# Altium schematic symbol library xDAC_Carrier.SCHLIB: 81 symbols
Pins are listed as number, name and electrical type; pins without a type are passive.

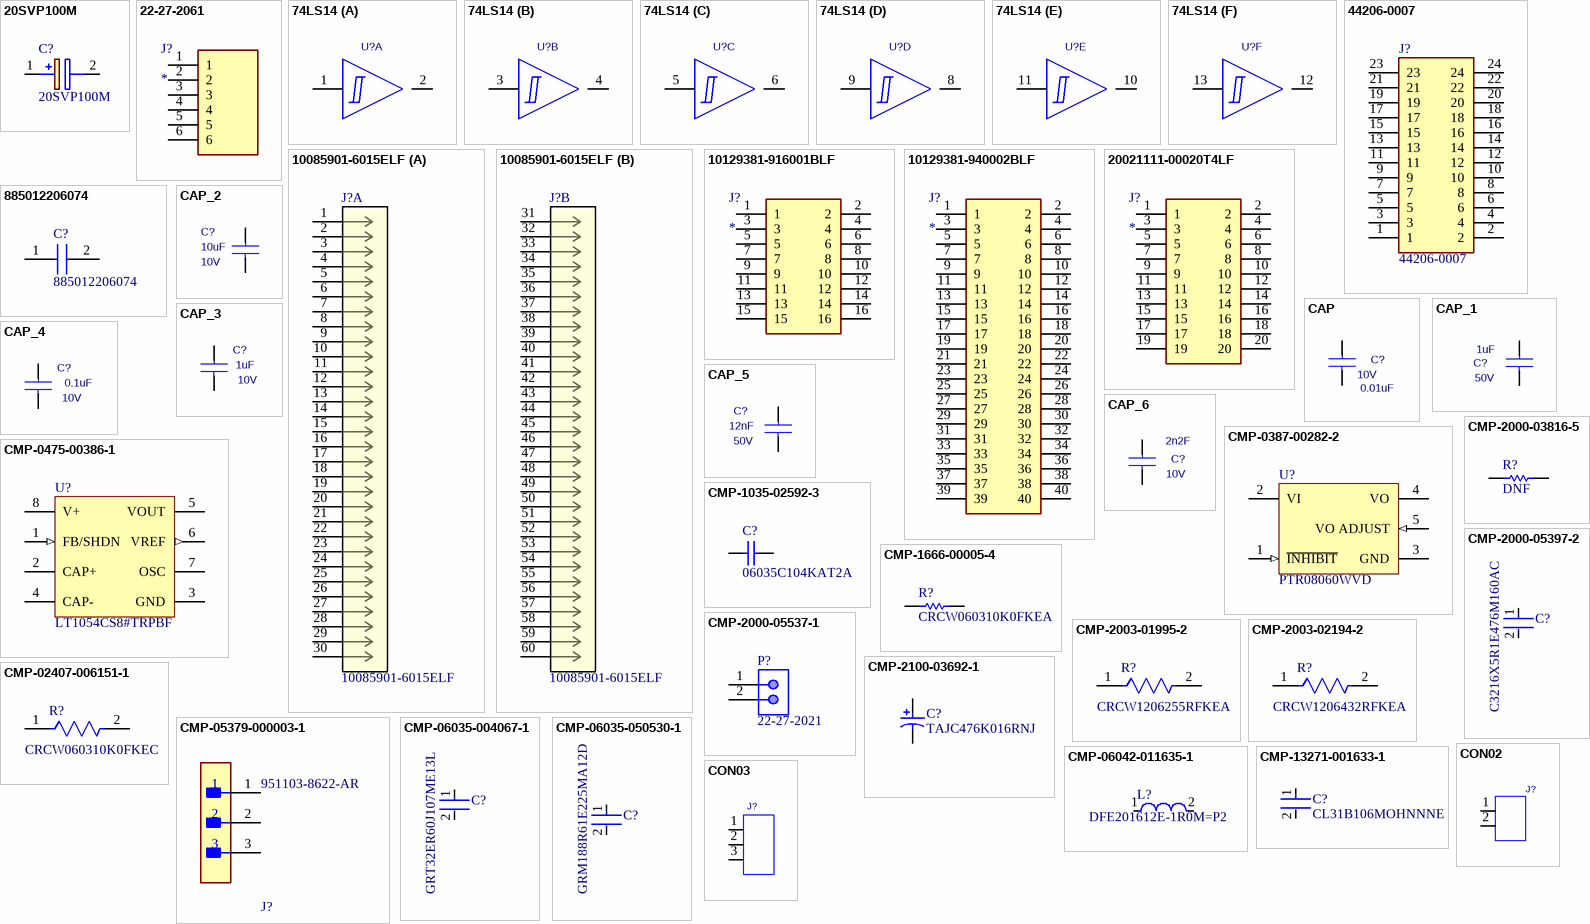
[diagram p0: symbols 20SVP100M to CON03]

## 20SVP100M
designator C?
Capacitor Polarised; Manufacturer_Name: Panasonic; Datasheet Link: https://industrial.panasonic.com/cdbs/www-data/pdf/AAB8000/AAB8000C193.pdf; Height: 12mm; VCC-A_PSU: *; Manufacturer_Part_Number: 20SVP100M
footprint CAPAE830X1200N
pins: 1 +, 2 -

## 22-27-2061
designator J?
Connector; Manufacturer_Name: Molex; Datasheet Link: https://componentsearchengine.com//22-27-2061.pdf; Height: 11.7mm; Mouser2 Part Number: 538-22-27-2061; Mouser2 Price/Stock: https://www.mouser.com/Search/Refine.aspx?Keyword=538-22-27-2061; Manufacturer_Part_Number: 22-27-2061
footprint HDRV6W64P0X254_1X6_1524X580X1170P
pins: 1, 2, 3, 4, 5, 6

## 74LS14
designator U?  (value not drawn)
HEX SCHMITT-TRIGGER INV; Manufacturer: ON SEMICONDUCTOR; Manufacturer_PN: 74AC04SC; Manufacturer #1: TEXAS INSTRUMENTS; PCB DECAL: SO14NB; CLASS: IC; Source_Path: \\MIL-NS1\CIP\SCHEMATIC_SYMBOLS\LTC_IC.OLB; Value: 74AC04SC; Order No: 1014140; SIGPIN14: VCC; Package_Size: SOT23-5; Package_Type: SOT23-5; Part No: 74AC04SC
footprint SO14NB
pins on every part: 7 GND (power) hidden to GND, 14 +5V (power) hidden to +5V
part A pins: 1, 2
part B pins: 3, 4
part C pins: 5, 6
part D pins: 8, 9
part E pins: 10, 11
part F pins: 12, 13

## 44206-0007
designator J?
Connector; Manufacturer_Name: Molex; Datasheet Link: https://www.molex.com/pdm_docs/sd/442060007_sd.pdf; Height: 12.8mm; Manufacturer_Part_Number: 44206-0007; POWER_INLET: *; System: Connector
footprint 442060007
pins: 1, 2, 3, 4, 5, 6, 7, 8, 9, 10, 11, 12, 13, 14, 15, 16, 17, 18, 19, 20, 21, 22, 23, 24

## 10085901-6015ELF
designator J?
No Description Available; Vendor: Amphenol; Built_By: EMA_Cory; SourceLibrary: Add_to_database_2021-04-09; System: Connector; Datasheet: https://cdn.amphenol-icc.com/media/wysiwyg/files/drawing/10085901.pdf?__cf_chl_jschl_tk__=00cf1f2338c5aeb40a4a47e00234174ceeaf26be-1617915708-0-AUipvdsWCe-XZcdQlp4wT1nonxNIPUZLiwIArEoPaP6cuSg2Amwfh3IakaG5lV7f92VjraYq1c-sb0kWBpxlvqJ5btwK7xgzNsdYdPmM7_nb70OsPjyWttq9HPXjGplazXSr1hDHv_rDyC0zqv3HN48lPyOnNuBENjkL6MLTjp3uNt_7zdD9wXF42vBbOCWCMT21rEgRTcG02oyZPRtIZwSo4Bm14CHkq-wdTg3hTL-ge00hJNPLNIP2JOl_bFxROehCM3O6jFy1LURflg9URMEHmwnyPbKOGS5_efv-ux4kMXut2MrrVkPCOaNyQI6A4DXSEQB6NjyE-YiRBZyhp3AdQLNym8hlKD61FdGHWwHwPR-a6VgqUZ92M4HgAmiZit1aB5L5iBGO44LNzjKKX60f2YBLURA21HBfVl5evVMz2Eb-ABe8B7xej-rMAyqLj9p7F-6ASMxfQEpk_K_En3gheYDfZcXem0ttM-lU-86L; Manufacturer_Part_Number: 10085901-6015ELF; Copyright: Copyright (C) 2018 Accelerated Designs. All rights reserved; RefDes: RefDes; Type: DEV
footprint CONN_10085901-6015ELF_AMP
part A pins: 1, 2, 3, 4, 5, 6, 7, 8, 9, 10, 11, 12, 13, 14, 15, 16, 17, 18, 19, 20, 21, 22, 23, 24, 25, 26, 27, 28, 29, 30
part B pins: 31, 32, 33, 34, 35, 36, 37, 38, 39, 40, 41, 42, 43, 44, 45, 46, 47, 48, 49, 50, 51, 52, 53, 54, 55, 56, 57, 58, 59, 60

## 10129381-916001BLF
designator J?
Connector; Manufacturer_Name: Amphenol; Manufacturer_Part_Number: 10129381-916001BLF; Datasheet Link: https://componentsearchengine.com//10129381-916001BLF.pdf; Height: 8.63mm; Mouser2 Part Number: 649-1012938191601BLF; Mouser2 Price/Stock: https://www.mouser.com/Search/Refine.aspx?Keyword=649-1012938191601BLF
footprint HDRV16W90P254_2X8_2032X483X863P
pins: 1, 2, 3, 4, 5, 6, 7, 8, 9, 10, 11, 12, 13, 14, 15, 16

## 10129381-940002BLF
designator J?
Connector; Manufacturer_Name: Amphenol; Manufacturer_Part_Number: 10129381-940002BLF; Datasheet Link: https://cdn.amphenol-icc.com/media/wysiwyg/files/documentation/datasheet/boardwiretoboard/bwb_econostik_254headers.pdf; Height: 8.78mm
footprint HDRV40W64P254_2X20_5080X483X878P
pins: 1, 2, 3, 4, 5, 6, 7, 8, 9, 10, 11, 12, 13, 14, 15, 16, 17, 18, 19, 20, 21, 22, 23, 24, 25, 26, 27, 28, 29, 30, 31, 32, 33, 34, 35, 36, 37, 38, 39, 40

## 20021111-00020T4LF
designator J?
Connector; Manufacturer_Name: FCI Electronics; Manufacturer_Part_Number: 20021111-00020T4LF; Datasheet Link: https://media.digikey.com/pdf/Data%20Sheets/FCI%20PDFs/Minitek%20127_Catalog.pdf; Height: 5.5mm
footprint HDRV20W40P127_2X10_1270X340X550P
pins: 1, 2, 3, 4, 5, 6, 7, 8, 9, 10, 11, 12, 13, 14, 15, 16, 17, 18, 19, 20

## 885012206074
designator C?
Capacitor; Manufacturer_Name: Wurth Elektronik; Datasheet Link: https://katalog.we-online.com/pbs/datasheet/885012206074.pdf; Height: 0.87mm; Manufacturer_Part_Number: 885012206074; 8Vinv: *
footprint CAPC1608X87N
pins: 1, 2

## CAP
designator C?  value 0.01uF  Rated_Voltage: 10V  (hidden comment: CAP)
CAP.,0.01uF,X5R,10V,10%,0603; Manufacturer_PN: 0603ZD103KAT2A; Manufacturer: AVX; CLASS: DISCRETE; FPLIST: CC0603N,CC0603L,CC0603M; PCB DECAL: CC0603N; Source_Path: \\MIL-NS1\CIP\SCHEMATIC_SYMBOLS\LTC_CAPACITOR.OLB; Geometry.Height: 37.40mil; Tolerance: 10%; Dielectric_Type: X5R; Package_Size: 0603
footprint CC0603N
pins: 1, 2

## CAP_1
designator C?, comment value 1uF  Rated_Voltage: 50V  (hidden comment: CAP)
CAP.,1uF,X5R,50V,10%,0603; PART_NUMBER: 150-3292; Manufacturer: TDK; Manufacturer_PN: C1608X5R1H105K080AB; FPLIST: CC0603N,CC0603L,CC0603M; CLASS: DISCRETE; PCB DECAL: CC0603N; Source_Path: \\MIL-NS1\CIP\SCHEMATIC_SYMBOLS\LTC_CAPACITOR.OLB; Geometry.Height: 37.40mil; Package_Size: 0603; Dielectric_Type: X5R; Tolerance: 10%; Package_Type: SMD
footprint CC0603N
pins: 1, 2

## CAP_2
designator C?, comment value 10uF  Rated_Voltage: 10V  (hidden comment: CAP)
CAP.,10uF,X5R,10V,20%,0603; PART_NUMBER: 150-3459; Manufacturer: AVX; Manufacturer_PN: 0603ZD106MAT2A; FPLIST: CC0603N,CC0603L,CC0603M; CLASS: DISCRETE; PCB DECAL: CC0603N; Source_Path: \\MIL-NS1\CIP\SCHEMATIC_SYMBOLS\LTC_CAPACITOR.OLB; Geometry.Height: 37.40mil; Package_Size: 0603; Package_Type: SMD; Dielectric_Type: X5R; Tolerance: 20%
footprint CC0603N
pins: 1, 2

## CAP_3
designator C?, comment value 1uF  Rated_Voltage: 10V  (hidden comment: CAP)
CAP.,1uF,X5R,10V,10%,0603; Manufacturer_PN: 0603ZD105KAT2A; Manufacturer: AVX; PART_NUMBER: 150-0113; CLASS: DISCRETE; FPLIST: CC0603N,CC0603L,CC0603M; PCB DECAL: CC0603N; Source_Path: \\MIL-NS1\CIP\SCHEMATIC_SYMBOLS\LTC_CAPACITOR.OLB; Geometry.Height: 37.40mil; Tolerance: 10%; Dielectric_Type: X5R; Package_Size: 0603
footprint CC0603N
pins: 1, 2

## CAP_4
designator C?, comment value 0.1uF  Rated_Voltage: 10V  (hidden comment: CAP)
CAP.,0.1uF,X5R,10V,10%,0603; PART_NUMBER: 150-3154; Manufacturer: AVX; Manufacturer_PN: 0603ZD104KAT2A; FPLIST: CC0603N,CC0603L,CC0603M; CLASS: DISCRETE; PCB DECAL: CC0603N; Source_Path: \\MIL-NS1\CIP\SCHEMATIC_SYMBOLS\LTC_CAPACITOR.OLB; Geometry.Height: 37.40mil; Package_Size: 0603; Dielectric_Type: X5R; Tolerance: 10%
footprint CC0603N
pins: 1, 2

## CAP_5
designator C?, comment value 12nF  Rated_Voltage: 50V  (hidden comment: CAP)
Cap., 0.012µF ±10% 50V Ceramic X7R 0603 (1608 Metric); PART_NUMBER: 478-1228-1-ND; Manufacturer: AVX; Manufacturer_PN: 06035C123KAT2A; FPLIST: CC0603N,CC0603L,CC0603M; Dielectric_Type: X5R; CLASS: DISCRETE; PCB DECAL: CC0603N; Source_Path: \\MIL-NS1\CIP\SCHEMATIC_SYMBOLS\LTC_CAPACITOR.OLB; Geometry.Height: 37.40mil; Package_Size: 0603; Package_Type: SMD; Tolerance: 10%
footprint CC0603N
pins: 1, 2

## CAP_6
designator C?, comment value 2n2F  Rated_Voltage: 10V  (hidden comment: CAP)
CAP.,2n2F,X5R,10V,10%,0603; PART_NUMBER: 1414624; Manufacturer: Kemet; Manufacturer_PN: C0603C222K5RACTU; FPLIST: CC0603N,CC0603L,CC0603M; CLASS: DISCRETE; PCB DECAL: CC0603N; Source_Path: \\MIL-NS1\CIP\SCHEMATIC_SYMBOLS\LTC_CAPACITOR.OLB; Geometry.Height: 37.40mil; Package_Size: 0603; Dielectric_Type: X5R; Tolerance: 10%
footprint CC0603N
pins: 1, 2

## CMP-0387-00282-2
designator U?, comment PTR08060WVD
6 A, 4.5 to 14 V Input, Non-Isolated, Wide Output, Adjustable Power Module, -40 to 85 degC, 5-pin Module (EDP5), Pb-Free (RoHS); Manufacturer: Texas Instruments; Iout(Max)(A): 6; Vout(Min)(V): 0.6; SubFamily: Step-Down (Buck) Module; Regulated Outputs(#): 1; Vout(Max)(V): 5.5; VO Adjustable: TRUE; Vin(Max)(V): 14; Vin(Min)(V): 4.5; ComponentLink3URL: http://www.ti.com/lit/ml/mpds304/mpds304.pdf; ComponentLink1URL: http://www.ti.com/; Mounting Technology: Through Hole; Eco-Plan: Pb-Free (RoHS); PackageReference: EDP0005A; DatasheetVersion: SLTS289F; ComponentLink4URL: Samples URL:http://www.ti.com/product/ptr08060w; ComponentLink3Description: Package Specification; ComponentLink4Description: URL Link1; PartNumber: PTR08060WVD; PackageVersion: 4208201/A; ComponentLink2Description: Datasheet; ComponentLink1Description: Manufacturer URL; PackageDescription: 5-Pin Plastic Special Shape, Body 16.51 x 10.41 mm; ComponentLink2URL: http://www.ti.com/general/docs/lit/getliterature.tsp?genericPartNumber=PTR08060W&fileType=pdf; VCC-A_PSU: *; Manufacturer Part Number: PTR08060WVD
footprint EDP0005A (Module, 5-Leads, Body 10.41x9.42mm)
pins: 1 ~{INHIBIT} (in) "The Inhibit pin is an open-collector/drain-negative logic input that is referenced to GND. Applying a low-level ground signal to this input disables the module's output. When the Inhibit control is active, the input current (See Datasheet)", 2 VI (power) "The positive input voltage power node to the module, which is referenced to common GND.", 3 GND (power) "This is the common ground connection for the VI and VO power connections. It is also the 0 VDC reference for the Inhibit and VO Adjust control inputs.", 4 VO (power) "The regulated positive power output with respect to the GND node.", 5 VO ADJUST (in) "A 1% resistor must be connected between this pin and GND (pin 3) to set the output voltage of the module higher than 0.6 V. If left open-circuit, the output voltage defaults to this value. The temperature stability of the (See Datasheet)"

## CMP-0475-00386-1
designator U?, comment LT1054CS8#TRPBF
Switched-Capacitor Voltage Converter with Regulator, 3.5 to 15 V Vin, Adjustable Vout, 8-pin SOIC (S8-8), 0 to 100 degC, Pb-Free, Tape and Reel; Manufacturer: Linear Technology; Manufacturer: Analog Devices / Linear Technology; Isupply(mA): 2.5; Ishutdown(uA): 100; Vin Min(V): 3.5; Frequency(kHz): 25; Vin Max(V): 15; Voutput: Adj; PackageDescription: 8-Pin Plastic Small Outline (Narrow .150 Inch), Body 4.9 x 3.9 mm, Pitch 1.27 mm; RoHS: TRUE; Packing: Tape and Reel; ComponentLink1Description: Manufacturer URL; ComponentLink2Description: Datasheet; Max Iout(mA): 100; ComponentLink2URL: http://cds.linear.com/docs/en/datasheet/1054lfg.pdf; DatasheetVersion: Rev. G; PartNumber: LT1054CS8#TRPBF; PackageReference: S8-8; ComponentLink3URL: http://cds.linear.com/docs/en/packaging/05081610_G_SO8.pdf; Mounting Technology: Surface Mount; PackageVersion: Rev. G, 03/2012; ComponentLink3Description: Package Specification; ComponentLink1URL: http://www.linear.com/; C1_V-: *; Manufacturer Part Number: LT1054CS8#TRPBF
footprint LT-S8-8_M (SOIC, 8-Leads, Body 5x4mm, Pitch 1.27mm, IPC Low Density)
footprint LT-S8-8_L (SOIC, 8-Leads, Body 5x4mm, Pitch 1.27mm, IPC High Density)
footprint LT-S8-8_N (SOIC, 8-Leads, Body 5x4mm, Pitch 1.27mm, IPC Medium Density)
pins: 1 FB/SHDN (in), 2 CAP+ "Pin 2, the positive side of the input capacitor (CIN), is alternately driven between V + and ground. When driven to V+, Pin 2 sources current from V+. When driven to ground Pin 2 sinks current to ground. Pin 4, the negative (See Datasheet)", 3 GND (power), 4 CAP- "Pin 2, the positive side of the input capacitor (CIN), is alternately driven between V + and ground. When driven to V+, Pin 2 sources current from V+. When driven to ground Pin 2 sinks current to ground. Pin 4, the negative (See Datasheet)", 5 VOUT (power) "In addition to being the output pin this pin is also tied to the substrate of the device. Special care must be taken in LT1054 circuits to avoid pulling this pin positive with respect to any of the other pins. Pulling Pin 5 (See Datasheet)", 6 VREF (out) "Reference Output. This pin provides a 2.5V reference point for use in LT1054-based regulator circuits. The temperature coefficient of the reference voltage has been adjusted so that the temperature coefficient of the (See Datasheet)", 7 OSC "Oscillator Pin. This pin can be used to raise or lower the oscillator frequency or to synchronize the device to an external clock. Internally Pin 7 is connected to the oscillator timing capacitor (Ct  approx= 150pF) which is (See Datasheet)", 8 V+ (power) "Input Supply. The LT1054 alternately charges CIN to the input voltage when CIN is switched in parallel with the input supply and then transfers charge to COUT when CIN is switched in parallel with COUT. Switching occurs at (See Datasheet)"

## CMP-1035-02592-3
designator C?, comment 06035C104KAT2A
Chip Capacitor, 100 nF, +/- 10%, 50 V, -55 to 125 degC, 0603 (1608 Metric), RoHS, Tape and Reel; Manufacturer: Kyocera AVX; Manufacturer Part Number: 06035D104KAT2A; Manufacturer: Murata; Manufacturer Part Number: GRM188R71H104KA93D; Manufacturer: KEMET; Manufacturer Part Number: C0603C104K5RACTM; Manufacturer: Yageo; Manufacturer Part Number: CC0603KPX7R9BB104; Manufacturer: Vishay; Manufacturer Part Number: VJ0603Y104KXAPW1BC; Manufacturer Part Number: 06035C104KAT4A; Manufacturer: TDK; Manufacturer Part Number: C1608X5R1H104K; Manufacturer: Vishay Vitramon; Manufacturer Part Number: VJ0603Y104KXACW1BC; Manufacturer Part Number: C0603C104K5RAC; Manufacturer Part Number: CC0603KRX7R9BB104; Manufacturer Part Number: C1608X7R1H104K; Manufacturer: Vishay Semiconductors; Manufacturer Part Number: VJ0603Y104KXAAC; Manufacturer Part Number: C0603C104K5RACTU; Case\Package: 0603; Type (Capacitors): X7R; Capacitance: 100 nF; Voltage Rating: 50 V; Pins: 2; Max Operating Temperature: 125 degC; Min Operating Temperature: -55 degC; Case Code (Imperial): 0603; DatasheetVersion: 07/2016; Package Quantity: 4000; Length: 1.6 mm; REACH SVHC: No SVHC; Packaging: Tape and Reel; Case Code (Metric): 1608; Mounting Technology: Surface Mount; RoHSCompliant: true; Height: 0.9 mm; ComponentLink1URL: http://www.avx.com/; ComponentLink2URL: http://datasheets.avx.com/X7RDielectric.pdf; Mount: Surface Mount; ComponentLink2Description: Datasheet; Width: 0.81 mm; PackageReference: 0603; PackageDescription: 2-Pin Surface Mount Device, Body 1.6 x 0.81 mm; Radiation Hardening: No; ComponentLink1Description: Manufacturer URL; Voltage Rating (DC): 50 V; Tolerance: 10%; 8Vinv: *; Manufacturer Part Number: 06035C104KAT2A
footprint CAPC1608X90X35LL15T15 (Chip Capacitor, 2-Leads, Body 1.75x0.96mm, IPC High Density)
footprint CAPC1608X90X35ML15T15 (Chip Capacitor, 2-Leads, Body 1.75x0.96mm, IPC Low Density)
footprint CAPC1608X90X35NL15T15 (Chip Capacitor, 2-Leads, Body 1.75x0.96mm, IPC Medium Density)
pins: 1, 2

## CMP-1666-00005-4
designator R?, comment CRCW060310K0FKEA
Chip Resistor, 10 KOhm, +/- 1%, 100 mW, -55 to 155 degC, 0603 (1608 Metric), RoHS, Tape and Reel; Manufacturer: Vishay Semiconductor; Manufacturer: Vishay; Voltage Rating: 75 V; Max Operating Temperature: 155 degC; PackageDescription: 2-Pin Surface Mount Device, Body 1.575 x 0.85 mm; ComponentLink1Description: Manufacturer URL; RoHSCompliant: true; PackageReference: 0603; REACH SVHC: Unknown; Length: 1.55 mm; DatasheetVersion: 06/2012; Packaging: Tape and Reel; Min Operating Temperature: -55 degC; Mounting Technology: Surface Mount; ComponentLink2URL: https://datasheet.ciiva.com/11809/0900766b80d98afc-11809037.pdf; Height: 0.45 mm; ComponentLink2Description: Datasheet; Package Quantity: 5000; ComponentLink1URL: http://www.vishay.com/; Manufacturer Part Number: CRCW060310K0FKEA
footprint RESC1609X50X30NL8T20 (Chip Resistor, 2-Leads, Body 1.65x0.95mm, IPC Medium Density)
footprint RESC1609X50X30ML8T20 (Chip Resistor, 2-Leads, Body 1.65x0.95mm, IPC Low Density)
footprint RESC1609X50X30LL8T20 (Chip Resistor, 2-Leads, Body 1.65x0.95mm, IPC High Density)
pins: 1, 2

## CMP-2000-03816-5
designator R?, comment DNF
Chip Resistor, 0 Ohm, Jumper, 100 mW, -55 to 155 degC, 0603 (1608 Metric), RoHS, Tape and Reel; Manufacturer: Vishay Semiconductor; Manufacturer: Vishay; Manufacturer Part Number: CRCW0603-0000Z0EA; Voltage Rating: 75 V; Package Quantity: 5000; DatasheetVersion: 06/2012; Min Operating Temperature: -55 degC; ComponentLink1URL: http://www.vishay.com/; Mounting Technology: Surface Mount; Height: 0.45 mm; ComponentLink1Description: Manufacturer URL; REACH SVHC: Unknown; PackageReference: 0603; Packaging: Tape and Reel; Max Operating Temperature: 155 degC; Mount: Surface Mount; ComponentLink2Description: Datasheet; PackageDescription: 2-Pin Surface Mount Device, Body 1.575 x 0.85 mm; Length: 1.55 mm; ComponentLink2URL: http://www.vishay.com/docs/20035/dcrcwe3.pdf; Pins: 2; RoHSCompliant: true
footprint RESC1609X50X30NL8T20 (Chip Resistor, 2-Leads, Body 1.65x0.95mm, IPC Medium Density)
footprint RESC1609X50X30ML8T20 (Chip Resistor, 2-Leads, Body 1.65x0.95mm, IPC Low Density)
footprint RESC1609X50X30LL8T20 (Chip Resistor, 2-Leads, Body 1.65x0.95mm, IPC High Density)
pins: 1, 2

## CMP-2000-05397-2
designator C?, comment C3216X5R1E476M160AC
CAP CER 47UF 25V X5R 1206; 3DS Part Number: 220-00004; Manufacturer: TDK; Temperature Coefficient: 15%; Tolerance: 20%; Material: Ceramic; Height: 1.8mm; Device Class L1: Passive Components; Temperature Characteristic: X5R; Voltage: 25V; Digikey Description: CAP CER 47UF 25V X5R 1206; Voltage Rating: 25V; ComponentLink2URL: https://product.tdk.com/info/en/catalog/datasheets/mlcc_commercial_general_en.pdf; Category: Cap; Capacitance: 47uF; Ipc Land Pattern Name: CAPC320160X160; Temperature Range High: +85°C; ComponentLink2Description: Datasheet; Temperature: -55°C to +85°C; Mouser Description: Multilayer Ceramic Capacitors MLCC - SMD/SMT 1206 47uF 25volts X5R 20%; Lead Free: Yes; RoHS: TRUE; Device Class L2: Capacitors; Device Class L3: Ceramic Capacitors; Automotive: No; Temperature Range Low: -55°C; Footprint Url: https://product.tdk.com/info/en/catalog/spec/mlccspec_commercial_general_midvoltage_en.pdf; Value: 47uF; Octopart: https://octopart.com/c3216x5r1e476m160ac-tdk-25947783; Package: C3216-160; VCC-A_PSU: *; Manufacturer Part Number: C3216X5R1E476M160AC
footprint FP-C3216-160-MFG
footprint FP-C3216-160-IPC_C
footprint FP-C3216-160-IPC_B
footprint FP-C3216-160-IPC_A
pins: 1, 2

## CMP-2000-05537-1
designator P?, comment 22-27-2021
Male Header, Pitch 2.54 mm, 1 x 2 Position, Height 11.7 mm, Tail Length 3.56 mm, 0 to 75 degC, RoHS, Bulk; Manufacturer: Molex; PartNumber: 0022272021; Current rating: 4A; Package Version: Rev. BC, 02/2012; Voltage rating: 250V; No. of Positions: 2; Pitch: 2.54mm; No. of Rows: 1; System: Connector; Orientation: Vertical; Operating temperature: 0°Cto+75°C; Manufacturer URL: http://www.molex.com/; Mounting Technology: ThroughHole; Housing material: Nylon(UL94V-0); Package Description: 2-Leads Header, Body 5.08 x 5.8 mm, Pitch 2.54 mm; Voltage - Max: 250V; Datasheet URL: http://www.molex.com/pdm_docs/sd/022272021_sd.pdf; Package Reference: 22-27-2021; Contact material: Tinplatedbrass; Current - Max: 4A; Datasheet Version: Rev. F, 06/2009; POWER_INLET: *; Manufacturer Part Number: 22-27-2021
footprint MOLX-22-27-2021_V (Header, 2-Leads, Body 5.8x5.08mm)
pins: 1, 2

## CMP-2003-01995-2
designator R?, comment CRCW1206255RFKEA
RES Thick Film, 255Ω, 1%, 0.25W, 100ppm/°C, 1206; Manufacturer: Vishay; Voltage Rating: 200V; Power Rating: 250mW; Resistance: 255R; Mount: Surface Mount; Temperature Coefficient: 100ppm/°C; Weight: 0.000353oz; Tolerance: 1%; Composition: Thick Film; Radiation Hardening: No; Depth: 1.6mm; Lead Free: Lead Free; Min Operating Temperature: -55°C; Length: 3.2mm; Case/Package: 1206; Case Code (Metric): 3216; Packaging: Tape and Reel; Max Operating Temperature: 155°C; Military Standard: Not; Package Quantity: 5000; Contact Plating: Tin; Voltage Rating (DC): 200V; Termination: SMD/SMT; Height: 0.55mm; Width: 1.6mm; Case Code (Imperial): 1206; VCC-A_PSU: *; Manufacturer Part Number: CRCW1206255RFKEA
footprint FP-CRCW1206-e3-IPC_C
footprint FP-CRCW1206-e3-MFG
footprint FP-CRCW1206-e3-IPC_B
footprint FP-CRCW1206-e3-IPC_A
pins: 1, 2

## CMP-2003-02194-2
designator R?, comment CRCW1206432RFKEA
RES Thick Film, 432Ω, 1%, 0.25W, 100ppm/°C, 1206; Manufacturer: Vishay; Voltage Rating: 200V; Resistance: 432R; Max Power Dissipation: 250mW; Features: Automotive AEC-Q200; Termination: SMD/SMT; Weight: 0.000353oz; Lead Free: Lead Free; Packaging: Tape and Reel; Height: 0.55mm; Min Operating Temperature: -55°C; Case/Package: 1206; Power Rating: 250mW; Case Code (Metric): 3216; Military Standard: Not; Package Quantity: 10; Depth: 1.6mm; Composition: Thick Film; Temperature Coefficient: 100ppm/°C; Contact Plating: Tin; Length: 3.2mm; Radiation Hardening: No; Number of Terminations: 2; Case Code (Imperial): 1206; Voltage Rating (DC): 200V; Tolerance: 1%; Max Operating Temperature: 155°C; Width: 1.6mm; 3V3_PSU: *; Manufacturer Part Number: CRCW1206432RFKEA
footprint FP-CRCW1206-e3-IPC_B
footprint FP-CRCW1206-e3-MFG
footprint FP-CRCW1206-e3-IPC_C
footprint FP-CRCW1206-e3-IPC_A
pins: 1, 2

## CMP-2100-03692-1
designator C?, comment TAJC476K016RNJ
Standard Tantalum, 47 uF, +/- 10%, 16 V, -55 to 125 degC, 2-Pin SMD (2312), RoHS, Tape and Reel; Manufacturer: AVX; Manufacturer: Kyocera AVX; Voltage Rating: 16V; Capacitance: 47uF; Leakage Current: 7.5uA; Dissipation Factor: 6%; ESR (Equivalent Series Resistance): 500mOhm; Resistance: 0.5Ohm; Polarity: Polar; RoHSCompliant: True; Datasheet URL: http://datasheets.avx.com/TAJ.pdf; Number of Pins: 2; Height - Seated (Max): 0.11inch; Package Description: 2-Pin Surface Mount Device, Body 6 x 3.25 mm; REACH SVHC: NoSVHC; Width: 3.2mm; Case/Package: Molded; Radiation Hardening: No; Max Operating Temperature: 125degC; Package Reference: TAJ-C-2; Package Quantity: 1; Manufacturer URL: http://www.avx.com/; Packaging: TapeandReel; Height: 2.6mm; Dielectric Material: Tantalum; Voltage Rating (DC): 16V; Datasheet Version: 42401.0; Voltage: 16V; Length: 6mm; Depth: 3.2mm; Termination: SMD/SMT; Tolerance: 10%; Case Code (Imperial): 2312; Min Operating Temperature: -55degC; Case Code (Metric): 6032; Lead Free: LeadFree; C1_V+: *; Manufacturer Part Number: TAJC476K016RNJ
footprint AVX-TAJ-C-2_M (Molded Capacitor, 2-Leads, Body 6.2x3.4mm, IPC Low Density)
footprint AVX-TAJ-C-2_N (Molded Capacitor, 2-Leads, Body 6.2x3.4mm, IPC Medium Density)
footprint AVX-TAJ-C-2_L (Molded Capacitor, 2-Leads, Body 6.2x3.4mm, IPC High Density)
pins: 1, 2

## CMP-02407-006151-1
designator R?, comment CRCW060310K0FKEC
RES Thick Film, 10kΩ, 1%, 0.1W, 100ppm/°C, 0603; Manufacturer: Vishay Dale; Max Power Dissipation: 100mW; Resistance: 10kR; Radiation Hardening: No; Height: 0.02inch; Case Code (Metric): 1608; Case/Package: 0603; Case Code (Imperial): 0603; Lead Free: Lead Free; Tolerance: 1%; Number of Terminations: 2; Width: 0.033inch; Temperature Coefficient: 100ppm/°C; Length: 0.061inch; Max Operating Temperature: 155°C; Contact Plating: Tin; Depth: 0.85mm; Packaging: Tape and Reel; Composition: Thick Film; Power Rating: 100mW; Military Standard: Not; Min Operating Temperature: -55°C; Features: Automotive AEC-Q200; POWER_INLET: *; Manufacturer Part Number: CRCW060310K0FKEC
footprint FP-CRCW0603-e3-IPC_A
footprint FP-CRCW0603-e3-IPC_C
footprint FP-CRCW0603-e3-IPC_B
footprint FP-CRCW0603-e3-MFG
pins: 1, 2

## CMP-05379-000003-1
designator J?, comment 951103-8622-AR
CONN HEADER VERT 3POS 2MM; Manufacturer: 3M; Conn Gender: Male; Current Rating: 2A; Number Of Contacts: 3; Conn Orientation: Straight; Digikey Description: CONN HEADER VERT 3POS 2MM; Device Class L3: unset; Category: Conn; Height: 6.3mm; Manufacturer Part Number: 951103-8622-AR; RoHS: TRUE; Contact Material: Gold,Nickel; ComponentLink2Description: Datasheet; Temperature Range Low: -55°C; Device Class L1: Connectors; Pitch: 2mm; Mouser Description: Header; PinStrip; CopperAlloy; HighTempThermoplastic; 3Cnts; 1A; RtAngle; 951Series; Octopart: https://octopart.com/951103-8622-ar-3m-14400669; Package: 951103-8622-AR; Lead Free: Yes; Device Class L2: Headers and Wire Housings; Temperature Range High: +125°C; ComponentLink2URL: http://multimedia.3m.com/mws/media/1400506O/3m-pin-strip-header-951-series-78-5100-2653-3.pdf; Automotive: No; Temperature: -55°C to +125°C; Number Of Rows: 1
footprint FP-951103-8622-AR-MFG
pins: 1, 2, 3

## CMP-06035-004067-1
designator C?, comment GRT32ER60J107ME13L
Multi-Layer Ceramic Capacitor 100uF 6.3V X5R ±20% 1210 Emboss T/R; Manufacturer: Murata; Mount: Surface Mount; Capacitance: 100uF; Case Code (Imperial): 1210; Thickness: 0.106inch; Packaging: Tape and Reel; Case/Package: 1210; Case Code (Metric): 3225; Tolerance: 20%; Max Operating Temperature: 85°C; Width: 0.098inch; Ratings: AEC-Q200; Min Operating Temperature: -55°C; Length: 0.126inch; Voltage Rating: 6.3V; VCC-A_PSU: *; Manufacturer Part Number: GRT32ER60J107ME13L
footprint FP-GRT32E-0_3-IPC_A
footprint FP-GRT32E-0_3-IPC_B
footprint FP-GRT32E-0_3-IPC_C
footprint FP-GRT32E-0_3-MFG
pins: 1, 2

## CMP-06035-050530-1
designator C?, comment GRM188R61E225MA12D
Chip Multilayer Ceramic Capacitors for General Purpose, 0603, 2.2uF, X5R, 15%, 20%, 25V; Manufacturer: Murata; Case Code (Metric): 1608; Height: 0.8mm; Termination: SMD/SMT; Packaging: Tape and Reel; Case Code (Imperial): 0603; Voltage Rating (DC): 25V; Dielectric: X5R; Case/Package: 0603; Thickness: 0.035inch; Tolerance: 20%; Weight: 0.000222oz; Voltage Rating: 25V; Resistor Type: Ceramic; Mount: Surface Mount; Package Quantity: 4000; Length: 0.063inch; Max Operating Temperature: 85°C; Min Operating Temperature: -55°C; Capacitance: 2.2uF; Width: 0.031inch; C1_V-: *; Manufacturer Part Number: GRM188R61E225MA12D
footprint FP-GRM188-0_1-e0_2_0_5-IPC_A
footprint FP-GRM188-0_1-e0_2_0_5-IPC_B
footprint FP-GRM188-0_1-e0_2_0_5-IPC_C
footprint FP-GRM188-0_1-e0_2_0_5-MFG
pins: 1, 2

## CMP-06042-011635-1
designator L?, comment DFE201612E-1R0M=P2
Shielded Wirewound Inductor 1uH 20% 2900mA 0.048Ω 0806 (2016); Manufacturer: Murata; C1_V+: *; Manufacturer Part Number: DFE201612E-1R0M=P2
footprint FP-DFE201612C-IPC_A
footprint FP-DFE201612C-IPC_C
footprint FP-DFE201612C-MFG
footprint FP-DFE201612C-IPC_B
pins: 1, 2

## CMP-13271-001633-1
designator C?, comment CL31B106MOHNNNE
Cap Ceramic 10uF 16V X7R ±20% SMD 1206 +125°C Embossed T/R; Manufacturer: Samsung; Width: 0.063inch; Dielectric: X7R; Length: 0.126inch; Thickness: 0.071inch; Mount: Surface Mount; Packaging: Tape and Reel; Case Code (Imperial): 1206; Min Operating Temperature: -55°C; Tolerance: 20%; Case Code (Metric): 3216; Max Operating Temperature: 125°C; Voltage Rating: 16V; Capacitance: 10uF; Case/Package: 1206; Voltage Rating (DC): 16V; C1_V+: *; Manufacturer Part Number: CL31B106MOHNNNE
footprint FP-CL31-IPC_C
footprint FP-CL31-IPC_B
footprint FP-CL31-IPC_A
pins: 1, 2

## CON02
designator J?  (value not drawn)
2 pin Connector; Manufacturer: Molex; UNNAMED1: DNF; PCB DECAL: AE-6410-2W-VERTICAL; Order No: 1360130; Part No: 22-29-2021; System: Connector
footprint AE-6410-2W-VERTICAL
pins: 1, 2

## CON03
designator J?  (value not drawn)
3 pin Connector; MANUFACTURER1: ADIMPEX (Cod.  LE008003-R); Manufacturer: Molex; VALUE: STRIP1X3VM; SPEA DEVICE CODE: 700; PTEXT3: 3; PTEXT2: 2; PTEXT1: 1; Geometry.Height: 400 mil; PCB DECAL: AE-6410-3W-VERTICAL; UNNAMED1: DNF; Order No: 1360131; VAL: *; TOL: *; NTOL: *; MANUFACTURER2: Molex ( Cod. 22-03-2031 ); DEVICE TYPE: Connector; CASE TYPE: TH; Part No: 22-29-2031; System: Connector
footprint AE-6410-3W-VERTICAL
pins: 1, 2, 3

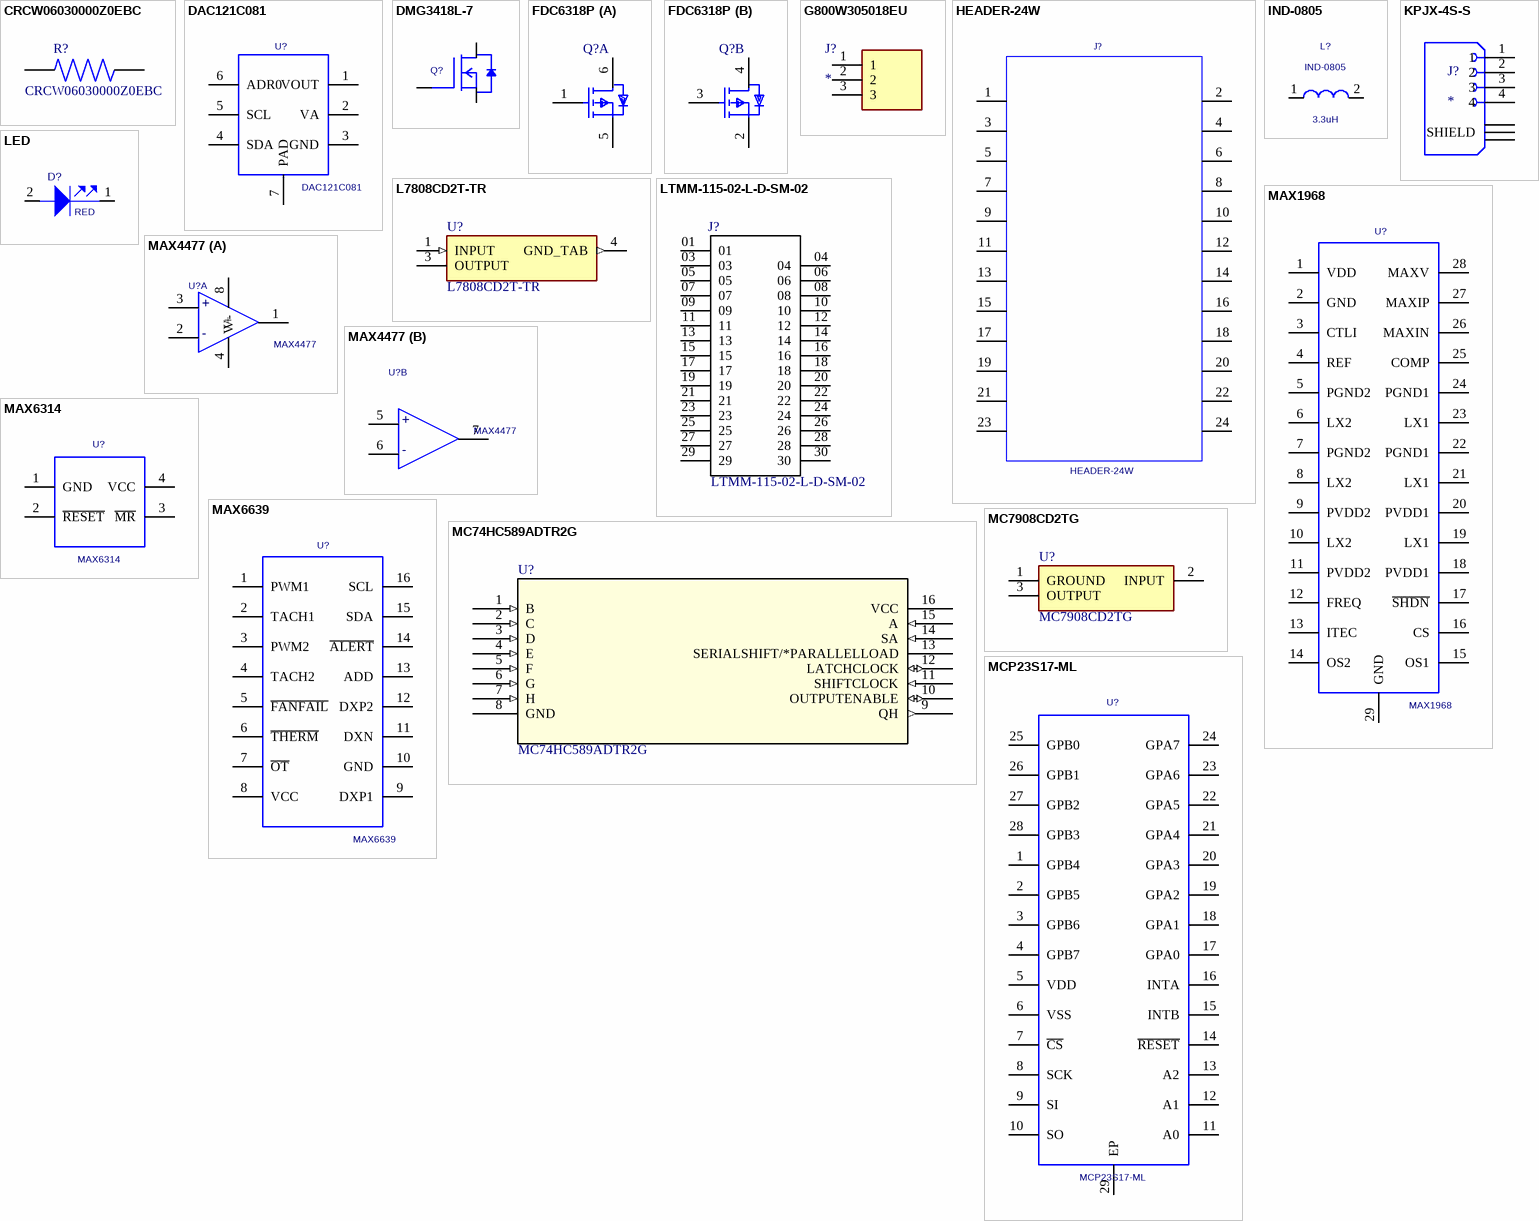
[diagram p1: symbols CRCW06030000Z0EBC to MCP23S17-ML]

## CRCW06030000Z0EBC
designator R?
0 Ohms Jumper 0.1W, 1/10W Chip Resistor 0603 (1608 Metric) Thick Film; MF: Vishay Dale; MP: CRCW06030000Z0EBC; Purchase-URL: https://pricing.snapeda.com/search/part/CRCW06030000Z0EBC/?ref=eda; SnapEDA_Link: https://www.snapeda.com/parts/CRCW06030000Z0EBC/Vishay%20Dale/view-part/3605563/?ref=snap; Availability: Warning; Package: 1608 Rohm Semiconductor; Value: *; Price: None; Check_prices: https://www.snapeda.com/parts/CRCW06030000Z0EBC/Vishay%20Dale/view-part/3605563/?ref=eda; 8Vinv: *
footprint RESC1608X55N
pins: 1, 2

## DAC121C081
designator U?
MANUFACTURER: TI; PART NO: DAC121C081CISD/NOPB; Order No: DAC121C081CISD/NOPBCT-ND; PCB DECAL: SON65P250X220X80-7N; Geometry.Height: 0.8mm
footprint SON65P250X220X80-7N
pins: 1 VOUT, 2 VA, 3 GND, 4 SDA, 5 SCL, 6 ADR0, 7 PAD

## DMG3418L-7
designator Q?  (value not drawn)
MOSFET N-CH 30V 4A SOT23; Manufacturer: Diodes Inc; PCB DECAL: SOT95P240X110-3N; Geometry.Height: 1.1mm; Order No: 3276189; Part No: DMG3418L-7
footprint SOT95P240X110-3N
pins: 1, 2, 3

## FDC6318P
designator Q?  (value not drawn)
part A pins: 1 G1, 5 S1, 6 D1
part B pins: 2 S2, 3 G2, 4 D2

## G800W305018EU
designator J?
Connector; Manufacturer_Name: Amphenol; Manufacturer_Part_Number: G800W305018EU; Datasheet Link: https://www.amphenol-icc.com/media/wysiwyg/files/drawing/g800wxxxxxxeu_1.pdf; Height: 8.95mm
footprint HDRV3W69P0X254_1X3_762X250X895P
pins: 1, 2, 3

## HEADER-24W
designator J?
Pin Header, Vertical, Board-to-Board, 2.54 mm, 2 Rows, 24 Contacts, Through Hole Straight; Manufacturer: WURTH ELEKTRONIK; Part No: 61302421121; Order No: 2356140; System: Connector; PCB DECAL: HEADER-24W
footprint HEADER-24W
pins: 1, 2, 3, 4, 5, 6, 7, 8, 9, 10, 11, 12, 13, 14, 15, 16, 17, 18, 19, 20, 21, 22, 23, 24

## IND-0805
designator L?  value 3.3uH
SURFACE MOUNT CHIP INDUCTOR 0.070 X 0.095; Manufacturer #1: IPC SM-782; Manufacturer: PANASONIC; Part No: ELGTEA3R3NA; Order No: 2309791; PCB DECAL: IND-0805
footprint IND-0805
pins: 1, 2

## KPJX-4S-S
designator J?
4 (Power) Position Circular Connector Jack, Female Sockets Solder; MF: Kycon; MP: KPJX-4S-S; Value: *; Price: None; Package: SOIC-20 Kycon; Availability: Warning; Purchase-URL: https://pricing.snapeda.com/search/part/KPJX-4S-S/?ref=eda; SnapEDA_Link: https://www.snapeda.com/parts/KPJX-4S-S/Kycon/view-part/584570/?ref=snap; Check_prices: https://www.snapeda.com/parts/KPJX-4S-S/Kycon/view-part/584570/?ref=eda
footprint KYCON_KPJX-4S-S
pins: 1, 2, 3, 4, S1 SHIELD, S2 SHIELD, S3 SHIELD

## L7808CD2T-TR
designator U?
Integrated Circuit; Manufacturer_Name: STMicroelectronics; Datasheet Link: http://www.st.com/web/en/resource/technical/document/datasheet/CD00000444.pdf; Height: 4.6mm; Manufacturer_Part_Number: L7808CD2T-TR; 8Vinv: *
footprint TO254P1542X460-3N
pins: 1 INPUT (in), 3 OUTPUT (power), 4 GND_TAB (out)

## LED
designator D?  value RED  (hidden comment: LED)
LED,RED,WATERCLEAR,TH RA; Manufacturer: BROADCOM; Part No: HLMP-3301-F00B2; Source_Path: \\MIL-NS1\CIP\SCHEMATIC_SYMBOLS\LTC_DIODE.OLB; CLASS: DISCRETE; PCB DECAL: LED/RA; Order No: 1003372; Package_Type: TH RA
footprint LED/RA
footprint LED$2F$RA
pins: 1 CATHODE, 2 ANODE

## LTMM-115-02-L-D-SM-02
designator J?
SnapEDA_Link: https://www.snapeda.com/parts/LTMM-115-02-L-D-SM-02/Samtec/view-part/?ref=snap; Check_prices: https://www.snapeda.com/parts/LTMM-115-02-L-D-SM-02/Samtec/view-part/?ref=eda; Value: *
footprint *SAMTEC_LTMM-115-02-L-D-SM-02_LTMM-115-02-L-D-SM-02(Primary)
pins: 01, 03, 04, 05, 06, 07, 08, 09, 10, 11, 12, 13, 14, 15, 16, 17, 18, 19, 20, 21, 22, 23, 24, 25, 26, 27, 28, 29, 30

## MAX1968
designator U?
Part No: MAX1969; Manufacturer: Maxim; PCB DECAL: SOP65P638X110-29N; Geometry.Height: 1.1mm; Order No: 2514258
footprint SOP65P638X110-29N
pins: 1 VDD, 2 GND, 3 CTLI, 4 REF, 5 PGND2, 6 LX2, 7 PGND2, 8 LX2, 9 PVDD2, 10 LX2, 11 PVDD2, 12 FREQ, 13 ITEC, 14 OS2, 15 OS1, 16 CS, 17 ~{SHDN}, 18 PVDD1, 19 LX1, 20 PVDD1, 21 LX1, 22 PGND1, 23 LX1, 24 PGND1, 25 COMP, 26 MAXIN, 27 MAXIP, 28 MAXV, 29 GND

## MAX4477
designator U?
Manufacturer: Maxim; Part No: MAX4477AUA+; PCB DECAL: SOP65P490X110-8CN; Geometry.Height: 1.1mm; Order No: 2510956
footprint SOP65P490X110-8CN
part A pins: 1, 2, 3, 4 V-, 8 V+
part B pins: 5, 6, 7
part A text: +; -
part B text: +; -

## MAX6314
designator U?
IC SUPERVISOR 1 CHANNEL SOT143-4; Manufacturer: Maxim; Part No: MAX6314US46D3+T; PCB DECAL: SOT190P230X110-4N; Geometry.Height: 1.1mm; Value: 4V63; Order No: 2512504
footprint SOT190P230X110-4N
pins: 1 GND, 2 ~{RESET}, 3 ~{MR}, 4 VCC

## MAX6639
designator U?
Manufacturer: Maxim; Part No: MAX6639FAEE+; Geometry.Height: 1.73mm; Order No: 2515647; PCB DECAL: SOP63P602X173-16N
footprint SOP63P602X173-16N
pins: 1 PWM1, 2 TACH1, 3 PWM2, 4 TACH2, 5 ~{FANFAIL}, 6 ~{THERM}, 7 ~{OT}, 8 VCC, 9 DXP1, 10 GND, 11 DXN, 12 DXP2, 13 ADD, 14 ~{ALERT}, 15 SDA, 16 SCL

## MC74HC589ADTR2G
designator U?
No Description Available; Vendor: ON Semiconductor; SourceLibrary: ONSemi_2017-12-12_1; Manufacturer_Part_Number: MC74HC589ADTR2G; Copyright: Copyright (C) 2016 Accelerated Designs. All rights reserved; RefDes: RefDes; Type: DEV
footprint TSSOP-16_ONS
pins: 1 B (in), 2 C (in), 3 D (in), 4 E (in), 5 F (in), 6 G (in), 7 H (in), 8 GND (power), 9 QH (out), 10 OUTPUTENABLE (io), 11 SHIFTCLOCK (in), 12 LATCHCLOCK (io), 13 SERIALSHIFT/*PARALLELLOAD, 14 SA (in), 15 A (in), 16 VCC (power)

## MC7908CD2TG
designator U?
Integrated Circuit; Manufacturer_Name: ON Semiconductor; Datasheet Link: https://www.onsemi.com/pdf/datasheet/mc7900-d.pdf; Manufacturer_Part_Number: MC7908CD2TG; C1_V-_PSU: *
footprint MC7908CD2TR4G
footprint MC7908CD2TR4G
pins: 1 GROUND, 2 INPUT, 3 OUTPUT

## MCP23S17-ML
designator U?
Manufacturer: Microchip; Part No: MCP23S17-E/ML; PCB DECAL: QFN65P600X600X100-29VN; Geometry.Height: 1mm; Order No: 3380575
footprint QFN65P600X600X100-29VN
pins: 1 GPB4, 2 GPB5, 3 GPB6, 4 GPB7, 5 VDD, 6 VSS, 7 ~{CS}, 8 SCK, 9 SI, 10 SO, 11 A0, 12 A1, 13 A2, 14 ~{RESET}, 15 INTB, 16 INTA, 17 GPA0, 18 GPA1, 19 GPA2, 20 GPA3, 21 GPA4, 22 GPA5, 23 GPA6, 24 GPA7, 25 GPB0, 26 GPB1, 27 GPB2, 28 GPB3, 29 EP

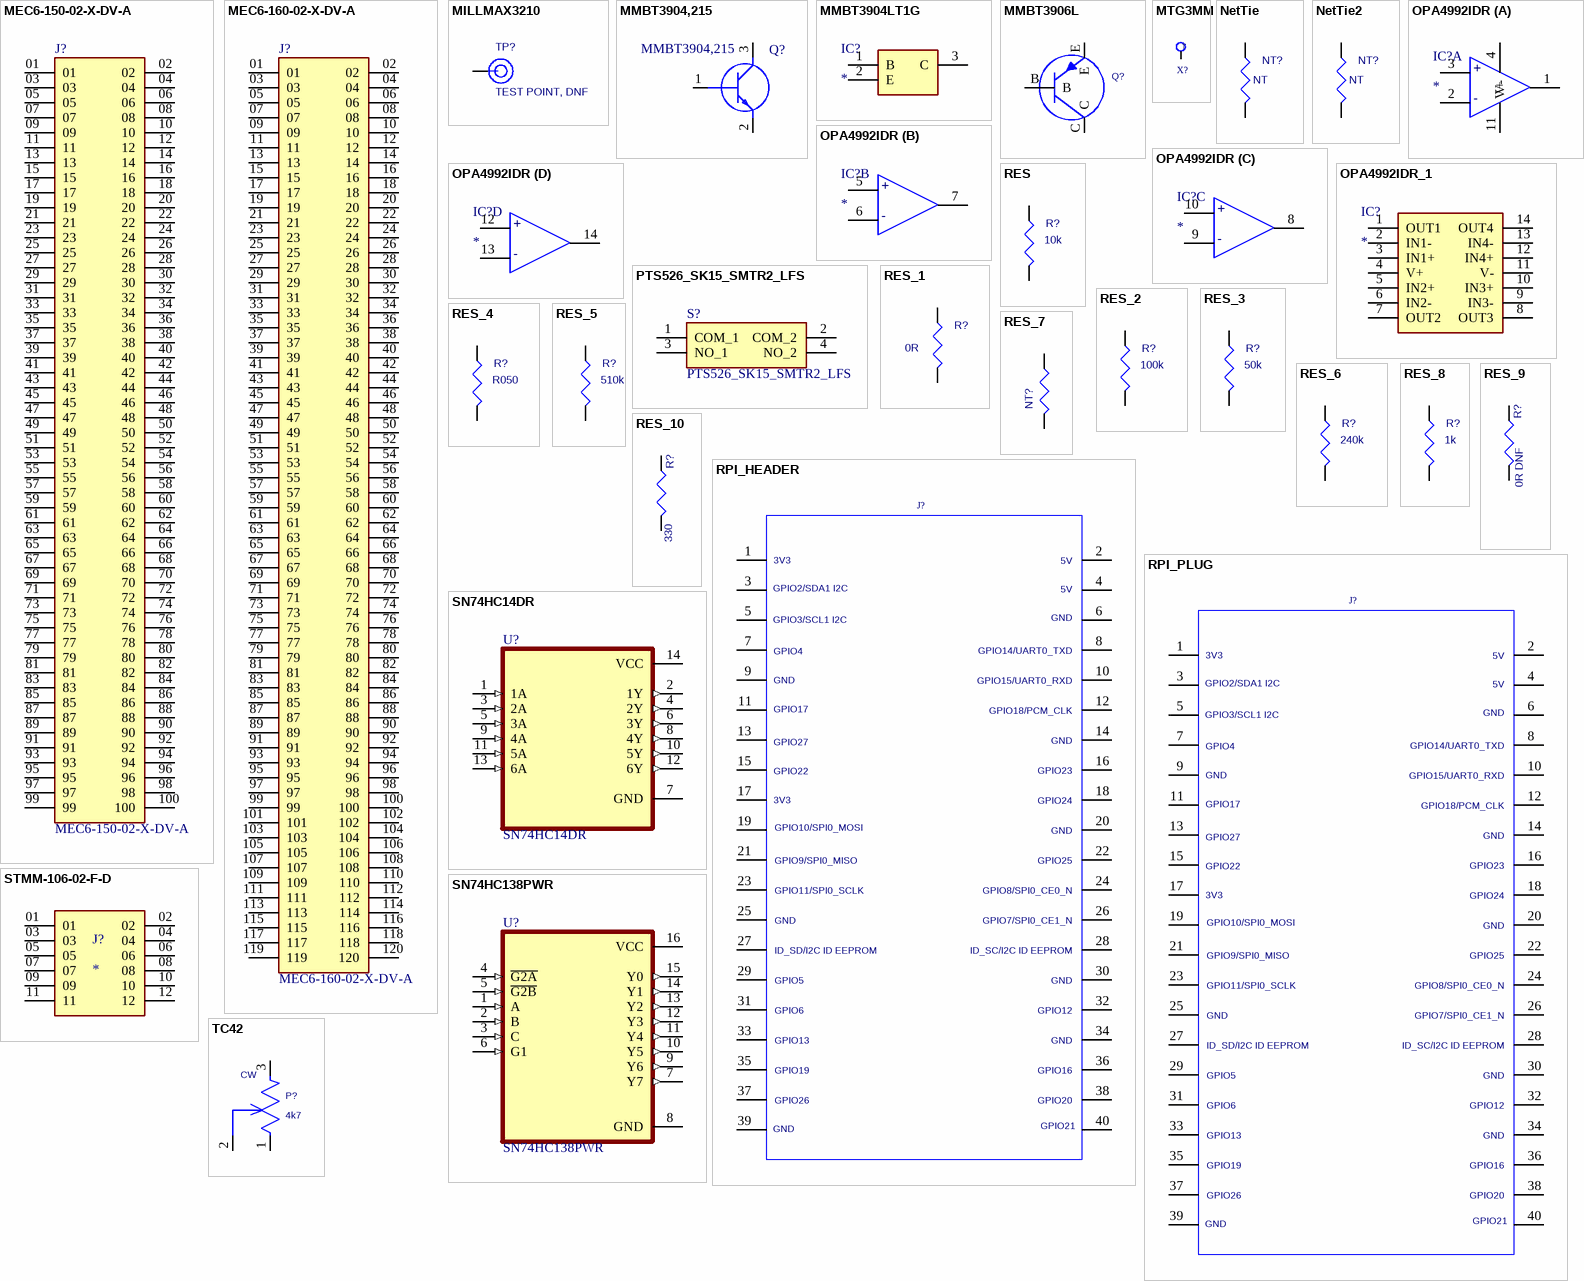
[diagram p2: symbols MEC6-150-02-X-DV-A to TC42]

## MEC6-150-02-X-DV-A
designator J?
MF: Samtec; System: Connector; MP: MEC6-150-02-X-DV-A; Package: None; Availability: Unavailable; Value: *; Price: None
footprint SAMTEC_MEC6-150-02-X-DV-A
pins: 01, 02, 03, 04, 05, 06, 07, 08, 09, 10, 11, 12, 13, 14, 15, 16, 17, 18, 19, 20, 21, 22, 23, 24, 25, 26, 27, 28, 29, 30, 31, 32, 33, 34, 35, 36, 37, 38, 39, 40, 41, 42, 43, 44, 45, 46, 47, 48, 49, 50, 51, 52, 53, 54, 55, 56, 57, 58, 59, 60, 61, 62, 63, 64, 65, 66, 67, 68, 69, 70, 71, 72, 73, 74, 75, 76, 77, 78, 79, 80, 81, 82, 83, 84, 85, 86, 87, 88, 89, 90, 91, 92, 93, 94, 95, 96, 97, 98, 99, 100

## MEC6-160-02-X-DV-A
designator J?
MF: Samtec Inc.; System: Connector; Value: *; Price: None; Package: None; Availability: Unavailable; MP: MEC6-160-02-X-DV-A
footprint SAMTEC_MEC6-160-02-X-DV-A
pins: 01, 02, 03, 04, 05, 06, 07, 08, 09, 10, 11, 12, 13, 14, 15, 16, 17, 18, 19, 20, 21, 22, 23, 24, 25, 26, 27, 28, 29, 30, 31, 32, 33, 34, 35, 36, 37, 38, 39, 40, 41, 42, 43, 44, 45, 46, 47, 48, 49, 50, 51, 52, 53, 54, 55, 56, 57, 58, 59, 60, 61, 62, 63, 64, 65, 66, 67, 68, 69, 70, 71, 72, 73, 74, 75, 76, 77, 78, 79, 80, 81, 82, 83, 84, 85, 86, 87, 88, 89, 90, 91, 92, 93, 94, 95, 96, 97, 98, 99, 100, 101, 102, 103, 104, 105, 106, 107, 108, 109, 110, 111, 112, 113, 114, 115, 116, 117, 118, 119, 120

## MILLMAX3210
designator TP?  value TEST POINT, DNF  (hidden comment: MILLMAX3210)
TEST POINT,TURRET,0.031",MTG. HOLE; Manufacturer_PN: 3210-2-00-01-00-00-08-0; Manufacturer: MILL-MAX; PART_FIELD_01: GND; Source_Path: \\MIL-NS1\CIP\SCHEMATIC_SYMBOLS\LTC_HARDWARE.OLB; CLASS: IO; PCB DECAL: MILLMAX3210
footprint MILLMAX3210
pins: 1

## MMBT3904,215
designator Q?
Transistor BJT NPN; Manufacturer_Name: Nexperia; Datasheet Link: https://assets.nexperia.com/documents/data-sheet/MMBT3904.pdf; Height: 1.1mm; Manufacturer_Part_Number: MMBT3904,215; Mouser Part Number: 771-MMBT3904T/R; Mouser Price/Stock: https://www.mouser.co.uk/ProductDetail/Nexperia/MMBT3904215?qs=LOCUfHb8d9s%2FW6hzAJGDbw%3D%3D; Arrow Part Number: MMBT3904,215; Arrow Price/Stock: https://www.arrow.com/en/products/mmbt3904215/nexperia?region=nac
footprint MMBT3904215
pins: 1 B, 2 E, 3 C

## MMBT3904LT1G
designator IC?
Integrated Circuit; Manufacturer_Name: onsemi; Manufacturer_Part_Number: MMBT3904LT1G; Datasheet Link: http://www.onsemi.com/pub/Collateral/MMBT3904LT1-D.PDF; Height: 1.11mm; Mouser Part Number: 863-MMBT3904LT1G; Mouser Price/Stock: https://www.mouser.co.uk/ProductDetail/onsemi/MMBT3904LT1G?qs=HVbQlW5zcXUYZ2Fy0YF3FQ%3D%3D; Arrow Part Number: MMBT3904LT1G; Arrow Price/Stock: https://www.arrow.com/en/products/mmbt3904lt1g/on-semiconductor?region=europe
footprint SOT96P237X111-3N
pins: 1 B, 2 E, 3 C

## MMBT3906L
designator Q?  (value not drawn)
GENERAL PURPOSE PNP SILICON TRANSISTOR; Part Number: MMBT3906LT1G; Manufacturer #1: On Semiconductor; Manufacturer: On Semi; Order No: MMBT3906LT1GOSCT-ND; Geometry.Height: 1.1mm; PCB DECAL: MMBT3906L; Order Number: MMBT3906LT1G; Part No: MMBT3906L
footprint MMBT3906L
pins: B, C, E

## MTG3MM
designator X?  (value not drawn)
.128 MOUNTING HOLE / .250 PAD; Part Number: MTHOLE1; Fitted: Yes; Value: DNF; PCB DECAL: MTG3MM; CREATED BY: CADPRO, SAN DIEGO, CA  (619) 552-1475
footprint MTG3MM
pins: 1
text: T

## NetTie
designator NT?, comment value NT  (hidden comment: Net Tie)  (net tie, no BOM)
Manufacturer_PN: ERJ3EKF1002V; Manufacturer: PANASONIC; Part No: P10.0KHCT-ND; PCB DECAL: CR0603N; CLASS: DISCRETE; Rated_Power: 1/10W; Tolerance: 1%; Temperature_Coefficient: 100ppm/C; FPLIST: CR0603N,CR0603L,CR0603M; Source_Path: \\MIL-NS1\CIP\SCHEMATIC_SYMBOLS\LTC_RESISTOR.OLB; Geometry.Height: 37.40mil; Package_Size: 0603
footprint NetTie (Net Tie)
pins: 1, 2

## NetTie2
designator NT?, comment value NT  (hidden comment: Net Tie)  (net tie, no BOM)
Manufacturer_PN: ERJ3EKF1002V; Manufacturer: PANASONIC; Part No: P10.0KHCT-ND; PCB DECAL: CR0603N; CLASS: DISCRETE; Rated_Power: 1/10W; Tolerance: 1%; Temperature_Coefficient: 100ppm/C; FPLIST: CR0603N,CR0603L,CR0603M; Source_Path: \\MIL-NS1\CIP\SCHEMATIC_SYMBOLS\LTC_RESISTOR.OLB; Geometry.Height: 37.40mil; Package_Size: 0603
footprint NetTie (Net Tie)
footprint NetTie2 (Net Tie)
pins: 1, 2

## OPA4992IDR
designator IC?
Integrated Circuit; Manufacturer_Name: Texas Instruments; Manufacturer_Part_Number: OPA4992IDR; Datasheet Link: https://www.ti.com/lit/ds/symlink/opa4992.pdf?ts=1675242172538&ref_url=https%253A%252F%252Fwww.ti.com%252Fproduct%252FOPA4992%252Fpart-details%252FOPA4992IDR; Height: 1.75mm; Mouser Part Number: 595-OPA4992IDR; Mouser Price/Stock: https://www.mouser.co.uk/ProductDetail/Texas-Instruments/OPA4992IDR?qs=doiCPypUmgFQGotnV4iSxA%3D%3D; Arrow Part Number: OPA4992IDR; Arrow Price/Stock: https://www.arrow.com/en/products/opa4992idr/texas-instruments?region=nac
footprint SOIC127P600X175-14N
part A pins: 1, 2, 3, 4 V+, 11 V-
part B pins: 5, 6, 7
part C pins: 8, 9, 10
part D pins: 12, 13, 14
part A text: +; -
part B text: +; -
part C text: +; -
part D text: +; -

## OPA4992IDR_1
designator IC?
Integrated Circuit; Manufacturer_Name: Texas Instruments; Manufacturer_Part_Number: OPA4992IDR; Datasheet Link: https://www.ti.com/lit/ds/symlink/opa4992.pdf?ts=1675242172538&ref_url=https%253A%252F%252Fwww.ti.com%252Fproduct%252FOPA4992%252Fpart-details%252FOPA4992IDR; Height: 1.75mm; Mouser Part Number: 595-OPA4992IDR; Mouser Price/Stock: https://www.mouser.co.uk/ProductDetail/Texas-Instruments/OPA4992IDR?qs=doiCPypUmgFQGotnV4iSxA%3D%3D; Arrow Part Number: OPA4992IDR; Arrow Price/Stock: https://www.arrow.com/en/products/opa4992idr/texas-instruments?region=nac
footprint SOIC127P600X175-14N
pins: 1 OUT1, 2 IN1-, 3 IN1+, 4 V+, 5 IN2+, 6 IN2-, 7 OUT2, 8 OUT3, 9 IN3-, 10 IN3+, 11 V-, 12 IN4+, 13 IN4-, 14 OUT4

## PTS526_SK15_SMTR2_LFS
designator S?
Switch; Manufacturer_Name: C & K COMPONENTS; Manufacturer_Part_Number: PTS526 SK15 SMTR2 LFS; Datasheet Link: https://www.ckswitches.com/media/2780/pts526.pdf; Height: 1.65mm; POWER_INLET: *
footprint PTS526SK15SMTR2LFS
pins: 1 COM_1, 2 COM_2, 3 NO_1, 4 NO_2

## RES
designator R?  value 10k  (hidden comment: RES)
RES.,10k OHMS,1%,1/10W,0603; Manufacturer_PN: ERJ3EKF1002V; Manufacturer: PANASONIC; Part No: P10.0KHCT-ND; PCB DECAL: CR0603N; CLASS: DISCRETE; Temperature_Coefficient: 100ppm/C; FPLIST: CR0603N,CR0603L,CR0603M; Source_Path: \\MIL-NS1\CIP\SCHEMATIC_SYMBOLS\LTC_RESISTOR.OLB; Geometry.Height: 37.40mil; Rated_Power: 1/10W; Tolerance: 1%; Package_Size: 0603
footprint CR0603N
pins: 1, 2

## RES_1
designator R?, comment value 0R  (hidden comment: RES)
RES.,4.99k OHMS,1%,1/10W,0603; Manufacturer_PN: ERJ3EKF4991V; Manufacturer: PANASONIC; PART_NUMBER: 100-0121; PCB DECAL: CR0603N; CLASS: DISCRETE; Temperature_Coefficient: 100ppm/C; FPLIST: CR0603N,CR0603L,CR0603M; Source_Path: \\MIL-NS1\CIP\SCHEMATIC_SYMBOLS\LTC_RESISTOR.OLB; Geometry.Height: 37.40mil; Rated_Power: 1/10W; Tolerance: 1%; Package_Size: 0603
footprint CR0603N
pins: 1, 2

## RES_2
designator R?, comment value 100k  (hidden comment: RES)
RES.,100k OHMS,1%,1/10W,0603; Manufacturer_PN: ERJ3EKF1003V; Manufacturer: PANASONIC; PART_NUMBER: P100KHCT-ND; PCB DECAL: CR0603N; CLASS: DISCRETE; Temperature_Coefficient: 100ppm/C; FPLIST: CR0603N,CR0603L,CR0603M; Source_Path: \\MIL-NS1\CIP\SCHEMATIC_SYMBOLS\LTC_RESISTOR.OLB; Geometry.Height: 37.40mil; Rated_Power: 1/10W; Tolerance: 1%; Package_Size: 0603
footprint CR0603N
pins: 1, 2

## RES_3
designator R?, comment value 50k  (hidden comment: RES)
RES.,50k OHMS,1%,1/10W,0603; Manufacturer_PN: CRCW0603560KFKEA; Manufacturer: VISHAY; PART_NUMBER: 2138575; PCB DECAL: CR0603N; CLASS: DISCRETE; Temperature_Coefficient: 100ppm/C; FPLIST: CR0603N,CR0603L,CR0603M; Source_Path: \\MIL-NS1\CIP\SCHEMATIC_SYMBOLS\LTC_RESISTOR.OLB; Geometry.Height: 37.40mil; Rated_Power: 1/10W; Tolerance: 1%; Package_Size: 0603
footprint CR0603N
pins: 1, 2

## RES_4
designator R?, comment value R050  (hidden comment: RES)
RES.,.0.050 OHMS,1%,1/3W,0603; Manufacturer_PN: ERJ-3BWFR050V; Manufacturer: PANASONIC; PART_NUMBER: P17472CT-ND; PCB DECAL: CR0603N; CLASS: DISCRETE; Temperature_Coefficient: 100ppm/C; FPLIST: CR0603N,CR0603L,CR0603M; Source_Path: \\MIL-NS1\CIP\SCHEMATIC_SYMBOLS\LTC_RESISTOR.OLB; Geometry.Height: 37.40mil; Rated_Power: 1/3W; Tolerance: 1%; Package_Size: 0603
footprint CR0603N
pins: 1, 2

## RES_5
designator R?, comment value 510k  (hidden comment: RES)
RES.,510k OHMS,1%,1/10W,0603; Manufacturer: PANASONIC; PCB DECAL: CR0603N; CLASS: DISCRETE; Temperature_Coefficient: 100ppm/C; FPLIST: CR0603N,CR0603L,CR0603M; Source_Path: \\MIL-NS1\CIP\SCHEMATIC_SYMBOLS\LTC_RESISTOR.OLB; Geometry.Height: 37.40mil; Rated_Power: 1/10W; Tolerance: 1%; Package_Size: 0603
footprint CR0603N
pins: 1, 2

## RES_6
designator R?, comment value 240k  (hidden comment: RES)
RES.,240k OHMS,1%,1/10W,0603; Manufacturer: PANASONIC; PCB DECAL: CR0603N; CLASS: DISCRETE; Temperature_Coefficient: 100ppm/C; FPLIST: CR0603N,CR0603L,CR0603M; Source_Path: \\MIL-NS1\CIP\SCHEMATIC_SYMBOLS\LTC_RESISTOR.OLB; Geometry.Height: 37.40mil; Rated_Power: 1/10W; Tolerance: 1%; Package_Size: 0603
footprint CR0603N
pins: 1, 2

## RES_7
designator NT?, comment RES  (value not drawn)  (net tie, no BOM)
Net Tie; Manufacturer_PN: ERJ-3BWFR050V; Manufacturer: PANASONIC; PART_NUMBER: P17472CT-ND; PCB DECAL: CR0603N; CLASS: DISCRETE; Rated_Power: 1/3W; Tolerance: 1%; Temperature_Coefficient: 100ppm/C; FPLIST: CR0603N,CR0603L,CR0603M; Source_Path: \\MIL-NS1\CIP\SCHEMATIC_SYMBOLS\LTC_RESISTOR.OLB; Value: R050; Geometry.Height: 37.40mil; Package_Size: 0603
footprint CR0603N
pins: 1, 2

## RES_8
designator R?, comment value 1k  (hidden comment: RES)
RES.,1k OHMS,1%,1/10W,0603; Manufacturer_PN: ERJ3EKF1001V; Manufacturer: PANASONIC; PART_NUMBER: P1.0KHCT-ND; PCB DECAL: CR0603N; CLASS: DISCRETE; Temperature_Coefficient: 100ppm/C; FPLIST: CR0603N,CR0603L,CR0603M; Source_Path: \\MIL-NS1\CIP\SCHEMATIC_SYMBOLS\LTC_RESISTOR.OLB; Geometry.Height: 37.40mil; Rated_Power: 1/10W; Tolerance: 1%; Package_Size: 0603
footprint CR0603N
pins: 1, 2

## RES_9
designator R?, comment value 0R DNF  (hidden comment: RES)
RES.,4.99k OHMS,1%,1/10W,0603; Manufacturer_PN: ERJ3EKF4991V; Manufacturer: PANASONIC; PART_NUMBER: 100-0121; PCB DECAL: CR0603N; CLASS: DISCRETE; Temperature_Coefficient: 100ppm/C; FPLIST: CR0603N,CR0603L,CR0603M; Source_Path: \\MIL-NS1\CIP\SCHEMATIC_SYMBOLS\LTC_RESISTOR.OLB; Geometry.Height: 37.40mil; Rated_Power: 1/10W; Tolerance: 1%; Package_Size: 0603
footprint CR0603N
pins: 1, 2

## RES_10
designator R?, comment value 330  (hidden comment: RES)
RES.,330 OHMS,1%,1/10W,0603; Manufacturer_PN: ERJ-3EKF3300V; Manufacturer: PANASONIC; PART_NUMBER: 100-0121; PCB DECAL: CR0603N; CLASS: DISCRETE; Temperature_Coefficient: 100ppm/C; FPLIST: CR0603N,CR0603L,CR0603M; Source_Path: \\MIL-NS1\CIP\SCHEMATIC_SYMBOLS\LTC_RESISTOR.OLB; Geometry.Height: 37.40mil; Rated_Power: 1/10W; Tolerance: 1%; Package_Size: 0603
footprint CR0603N
pins: 1, 2

## RPI_HEADER
designator J?  (value not drawn)
PCB Receptacle, Board-to-Board, 2.54 mm, 2 Rows, 40 Contacts, Through Hole Mount; Manufacturer: Multicomp; Part No: 2214S-40SG-85; PCB DECAL: RPI-RECEPTACLE-40; Order No: 2847248; System: Connector
footprint RPI-RECEPTACLE-40
pins: 1, 2, 3, 4, 5, 6, 7, 8, 9, 10, 11, 12, 13, 14, 15, 16, 17, 18, 19, 20, 21, 22, 23, 24, 25, 26, 27, 28, 29, 30, 31, 32, 33, 34, 35, 36, 37, 38, 39, 40
text: 3V3; 5V; GPIO2/SDA1 I2C; GPIO3/SCL1 I2C; GND; GPIO4; GPIO14/UART0_TXD; GPIO15/UART0_RXD; GPIO17; GPIO18/PCM_CLK; GPIO27; GPIO22; GPIO23; GPIO24; GPIO10/SPI0_MOSI; GPIO9/SPI0_MISO; GPIO25; GPIO11/SPI0_SCLK; GPIO8/SPI0_CE0_N; GPIO7/SPI0_CE1_N; ID_SD/I2C ID EEPROM; ID_SC/I2C ID EEPROM; GPIO5; GPIO6; GPIO12; GPIO13; GPIO19; GPIO16; GPIO26; GPIO20; GPIO21

## RPI_PLUG
designator J?, comment RPI_HEADER  (value not drawn)
PCB Plug, Board-to-Board, 2.54 mm, 2 Rows, 40 Contacts, Through Hole Mount; Manufacturer: Multicomp; Part No: 2214S-40SG-85; PCB DECAL: RPI-RECEPTACLE-40; Order No: 2847248; System: Connector
footprint HDRV40W64P254_2X20_5080X483X878P
pins: 1, 2, 3, 4, 5, 6, 7, 8, 9, 10, 11, 12, 13, 14, 15, 16, 17, 18, 19, 20, 21, 22, 23, 24, 25, 26, 27, 28, 29, 30, 31, 32, 33, 34, 35, 36, 37, 38, 39, 40
text: 3V3; 5V; GPIO2/SDA1 I2C; GPIO3/SCL1 I2C; GND; GPIO4; GPIO14/UART0_TXD; GPIO15/UART0_RXD; GPIO17; GPIO18/PCM_CLK; GPIO27; GPIO22; GPIO23; GPIO24; GPIO10/SPI0_MOSI; GPIO9/SPI0_MISO; GPIO25; GPIO11/SPI0_SCLK; GPIO8/SPI0_CE0_N; GPIO7/SPI0_CE1_N; ID_SD/I2C ID EEPROM; ID_SC/I2C ID EEPROM; GPIO5; GPIO6; GPIO12; GPIO13; GPIO19; GPIO16; GPIO26; GPIO20; GPIO21

## SN74HC14DR
designator U?
Hex Schmitt-Trigger Inverters 14-SOIC -40 to 85; MF: Texas Instruments; Arrow_Electronics-Purchase-URL: https://snapeda.com/shop?store=Arrow+Electronics&id=48244; DigiKey-Purchase-URL: https://snapeda.com/shop?store=DigiKey&id=48244; Package: SOIC-14 Texas Instruments; Digi-Key_Part_Number: 296-1194-1-ND; Value: *; Mouser-Purchase-URL: https://snapeda.com/shop?store=Mouser&id=48244; MP: SN74HC14DR; SnapEDA_Link: https://www.snapeda.com/parts/SN74HC14DR/Texas%20Instruments/view-part/48244/?ref=snap; Texas_Instruments-Purchase-URL: https://snapeda.com/shop?store=Texas+Instruments&id=48244; BuyPart: https://www.snapeda.com/parts/SN74HC14DR/Texas%20Instruments/view-part/48244/?ref=eda
footprint SOIC127P600X175-14N
pins: 1 1A (in), 2 1Y (out), 3 2A (in), 4 2Y (out), 5 3A (in), 6 3Y (out), 7 GND (power), 8 4Y (out), 9 4A (in), 10 5Y (out), 11 5A (in), 12 6Y (out), 13 6A (in), 14 VCC (power)

## SN74HC138PWR
designator U?
3-Line To 8-Line Decoders/Demultiplexers 16-TSSOP -40 to 85; MF: Texas Instruments; Purchase-URL: https://pricing.snapeda.com/search/part/SN74HC138PWR/?ref=eda; Package: TSSOP-16 Texas Instruments; MP: SN74HC138PWR; Value: *; SnapEDA_Link: https://www.snapeda.com/parts/SN74HC138PWR/Texas%20Instruments/view-part/387913/?ref=snap; Price: None; Availability: Unavailable; Check_prices: https://www.snapeda.com/parts/SN74HC138PWR/Texas%20Instruments/view-part/387913/?ref=eda
footprint SOP65P640X120-16N
pins: 1 A (in), 2 B (in), 3 C (in), 4 ~{G2A} (in), 5 ~{G2B} (in), 6 G1 (in), 7 Y7 (out), 8 GND (power), 9 Y6 (out), 10 Y5 (out), 11 Y4 (out), 12 Y3 (out), 13 Y2 (out), 14 Y1 (out), 15 Y0 (out), 16 VCC (power)

## STMM-106-02-F-D
designator J?
Connector Header Surface Mount 12 position 0.079 (2.00mm); MP: STMM-106-02-F-D; MF: Samtec; SnapEDA_Link: https://www.snapeda.com/parts/STMM-106-02-F-D/Samtec/view-part/3254548/?ref=snap; Value: *; Package: None; Price: None; Availability: Bad; Check_prices: https://www.snapeda.com/parts/STMM-106-02-F-D/Samtec/view-part/3254548/?ref=eda
footprint SAMTEC_STMM-106-02-F-D
pins: 01, 02, 03, 04, 05, 06, 07, 08, 09, 10, 11, 12

## TC42
designator P?  value 4k7  (hidden comment: TC42)
TRIMMER 0.1W J LEAD TOP X OHM; Manufacturer: Bourns; Part No: TC42X-2-472E; Order No: TC42X-2-472E-ND; PCB DECAL: TC42
footprint TC42
pins: 1, 2, 3
text: CW